# Altium footprint library eSurf_handle.PcbLib: 57 footprints (part 4 of 4)
Each footprint in its own frame and in the unit in brackets; x right, y up, seen from the top. Pads: shape width x height; smd on the part's side, far side on the other; paste and mask are expansions set on the pad; w line width, h text height; cw(c..) or ccw(c..) is an arc to the next point about the centre after c.
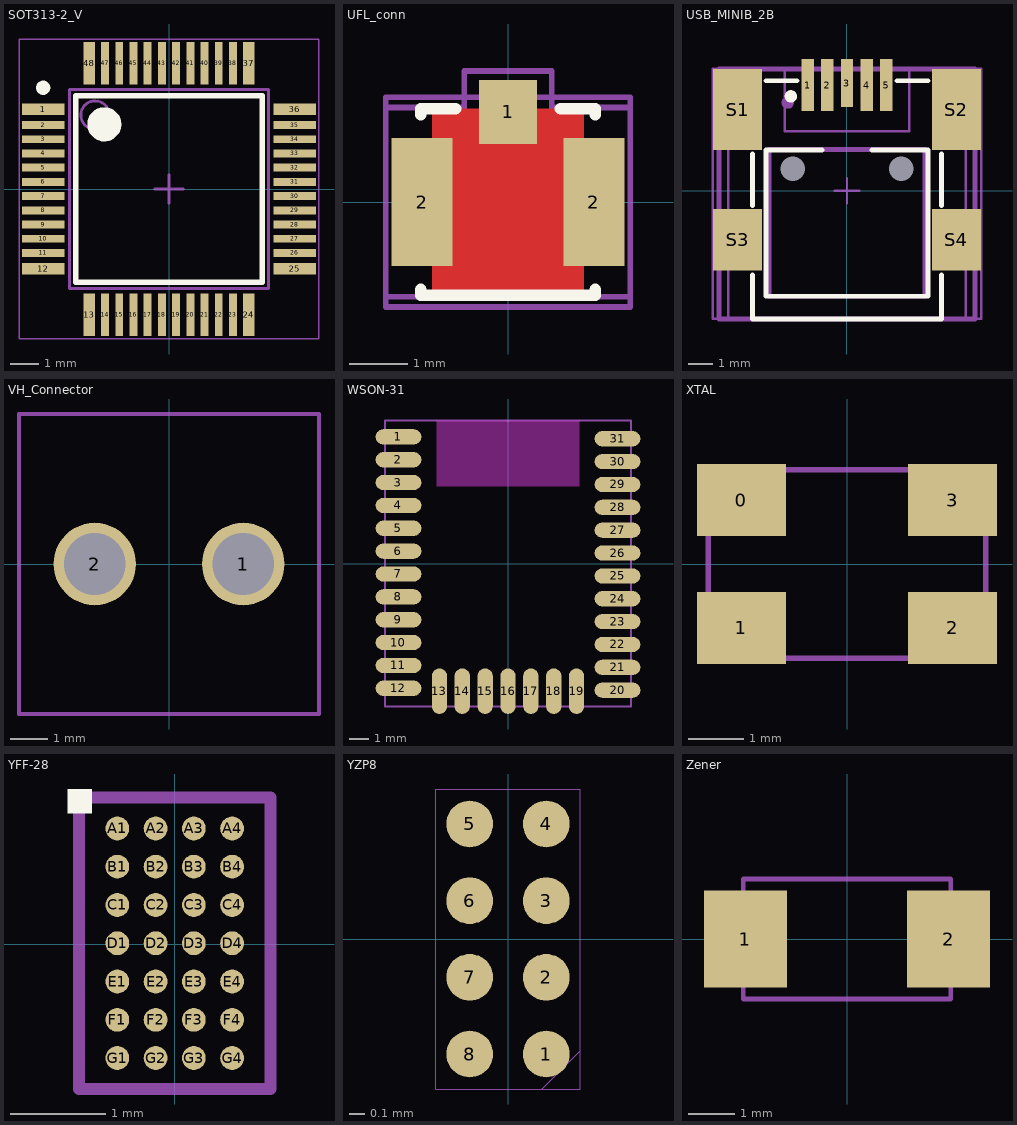
[diagram p3: the footprints below, top view; thin cyan lines are the x and y axes]

## SOT313-2_V [mm] "Thin QFP, 48-Leads, Body 7x7mm, Pitch 0.5mm, NXP Recommended"
height 1.6
pads (48):
  rect 1.5x0.4 smd: 1(-4.425,2.81) 12(-4.425,-2.81) 25(4.425,-2.81) 36(4.425,2.81)
  rect 1.5x0.28 smd: 2(-4.425,2.25) 3(-4.425,1.75) 4(-4.425,1.25) 5(-4.425,0.75) 6(-4.425,0.25) 7(-4.425,-0.25) 8(-4.425,-0.75) 9(-4.425,-1.25) 10(-4.425,-1.75) 11(-4.425,-2.25) 26(4.425,-2.25) 27(4.425,-1.75) 28(4.425,-1.25) 29(4.425,-0.75) 30(4.425,-0.25) 31(4.425,0.25) 32(4.425,0.75) 33(4.425,1.25) 34(4.425,1.75) 35(4.425,2.25)
  rect 0.4x1.5 smd: 13(-2.81,-4.425) 24(2.81,-4.425) 37(2.81,4.425) 48(-2.81,4.425)
  rect 0.28x1.5 smd: 14(-2.25,-4.425) 15(-1.75,-4.425) 16(-1.25,-4.425) 17(-0.75,-4.425) 18(-0.25,-4.425) 19(0.25,-4.425) 20(0.75,-4.425) 21(1.25,-4.425) 22(1.75,-4.425) 23(2.25,-4.425) 38(2.25,4.425) 39(1.75,4.425) 40(1.25,4.425) 41(0.75,4.425) 42(0.25,4.425) 43(-0.25,4.425) 44(-0.75,4.425) 45(-1.25,4.425) 46(-1.75,4.425) 47(-2.25,4.425)
Top Overlay:
  circle w0.6: c-2.275,2.275 r0.3
  circle w0.25: c-4.425,3.56 r0.125
  lines w0.2: -3.275,-3.275 3.275,-3.275 3.275,3.275 -3.275,3.275 -3.275,-3.275
Mechanical 13:
  circle w0.1: c-2.6,2.6 r0.5
  lines w0.1: -3.5,-3.5 3.5,-3.5 3.5,3.5 -3.5,3.5 -3.5,-3.5
Mechanical 15:
  lines w0.05: -5.275,-5.275 5.275,-5.275 5.275,5.275 -5.275,5.275 -5.275,-5.275
  lines w0.1: -0.5,0 0.5,0 ; 0,-0.5 0,0.5
3D body: height 1.6, standoff 0.05, extent -3.5,-3.5 3.5,3.5

## UFL_conn [mm]
pads (3):
  rect 1x1.1 smd: 1(0,1.55)
  rect 1.05x2.2 smd: 2(-1.475,0) 2(1.475,0)
Top Layer:
  pour cut-out: -1.3,1.6 -1.3,-1.6 1.3,-1.6 1.3,1.6
Top Overlay:
  lines w0.2: -1.5,-1.5 -1.5,-1.6 1.5,-1.6 1.5,-1.5 ; -1.5,1.5 -1.5,1.6 -0.9,1.6 ; 0.9,1.6 1.5,1.6 1.5,1.5
Mechanical 2:
  lines w0.1: -2.1,-1.625 -2.1,1.625 -0.75,1.625 -0.75,2.25 0.75,2.25 0.75,1.625 2.1,1.625 2.1,-1.625 -2.1,-1.625
  text ".Comment" at 1.85,0.1 h0.4
  text ".Designator" at 1.875,-0.625 h0.4
Mechanical 15:
  lines w0.1: -0.5,0 0.5,0 ; 0,-0.5 0,0.5 ; -2.1,-1.8 2.1,-1.8 2.1,1.8 -2.1,1.8 -2.1,-1.8
3D body: height 0.1, standoff 0, extent -1.65,-0.9 -1.15,0.9
3D body: height 0.1, standoff 0, extent 1.15,-0.9 1.65,0.9
3D body: height 0.45, standoff 0.35, extent -0.3,-1.6 0.3,-1
3D body: height 0.1, standoff 0, extent -0.3,-0.3 0.3,1.6
3D body: height 1, standoff 0, extent -0.1,-0.098 0.1,0.101
3D body: height 1.25, standoff 0, extent -0.996,-1 0.996,0.996
3D body: height 0.35, standoff 0, extent -1.301,-1.3 1.3,1.3

## USB_MINIB_2B [mm]
height 3.9
pads (11):
  rect 0.5x2.1 smd mask+0.05: 1(-1.6,4.3) 2(-0.8,4.3) 4(0.8,4.3) 5(1.6,4.3)
  rect 0.5x1.95 smd mask+0.05: 3(0,4.375)
  rect 2x3.3 smd: S1(-4.45,3.3) S2(4.45,3.3)
  rect 2x2.5 smd: S3(-4.45,-2) S4(4.45,-2)
  round 0.9 hole 1 unplated paste+0 mask-0.102: ""(-2.2,0.9) ""(2.2,0.9)
Top Overlay:
  circle w0.25: c-2.284,3.839 r0.125
  lines w0.2: -3.85,-3.429 -3.85,-5.207 3.85,-5.207 3.85,-3.429 ; -3.85,-0.6 -3.85,1.5 ; -3.302,4.474 -2.032,4.474 ; -1.016,1.651 -3.302,1.651 -3.302,-4.289 3.302,-4.289 3.302,1.651 1.016,1.651 ; 2.032,4.474 3.302,4.474 ; 3.85,-0.6 3.85,1.5
Mechanical 2:
  circle w0.25: c-2.411,3.585 r0.125
  lines w0.2: -5.207,-5.207 -5.207,4.953 1.807,4.953 5.207,4.953 5.207,-5.207 -5.207,-5.207 ; -3.175,-4.289 -3.175,1.68 3.175,1.68 3.175,-4.289 -3.175,-4.289
Mechanical 13:
  lines w0.1: -4.826,-5.207 -4.826,4.953 -2.54,4.953 -2.54,2.413 2.54,2.413 2.54,4.953 4.826,4.953 4.826,-5.207 -4.826,-5.207
Mechanical 15:
  lines w0.1: -0.5,0 0.5,0 ; 0,-0.5 0,0.5 ; -5.461,-5.207 5.461,-5.207 5.461,4.953 -5.461,4.953 -5.461,-5.207
3D body: height 3.9, standoff 0.05, extent -4.826,-5.207 4.826,4.953

## VH_Connector [mm] "JST Sales America Inc. B2P-VH(LF)(SN) - Connector 2 pins"
height 16
pads (2):
  round 2.2 hole 1.65: 1(1.98,0) 2(-1.98,0)
Mechanical 15:
  lines w0.1: -4,-4 4,-4 4,4 -4,4 -4,-4
3D body: height 10, standoff 0, extent -4,-4 4,4

## WSON-31 [mm] "BGM111 Bluetooth footprint"
height 1.8
pads (31):
  oval 2.4x0.8 smd: 1(-5.75,6.65) 2(-5.75,5.45) 3(-5.75,4.25) 4(-5.75,3.05) 5(-5.75,1.85) 6(-5.75,0.65) 7(-5.75,-0.55) 8(-5.75,-1.75) 9(-5.75,-2.95) 10(-5.75,-4.15) 11(-5.75,-5.35) 12(-5.75,-6.55) 20(5.75,-6.65) 21(5.75,-5.45) 22(5.75,-4.25) 23(5.75,-3.05) 24(5.75,-1.85) 25(5.75,-0.65) 26(5.75,0.55) 27(5.75,1.75) 28(5.75,2.95) 29(5.75,4.15) 30(5.75,5.35) 31(5.75,6.55)
  oval 0.8x2.4 smd: 13(-3.6,-6.7) 14(-2.4,-6.7) 15(-1.2,-6.7) 16(0,-6.7) 17(1.2,-6.7) 18(2.4,-6.7) 19(3.6,-6.7)
Keep-Out Layer:
  rectangle: -3.75,4.05 3.75,7.5
Mechanical 15:
  lines w0.1: -6.45,-7.5 -6.45,7.5 6.45,7.5 6.45,-7.5 -6.45,-7.5
3D body: height 1.6, standoff 0, extent -6.45,-7.5 6.45,7.5

## XTAL [mm]
pads (4):
  rect 1.6x1.3 smd: 0(-1.9,1.15) 1(-1.9,-1.15) 2(1.9,-1.15) 3(1.9,1.15)
Mechanical 15:
  lines w0.1: -2.5,-1.7 -2.5,1.7 2.5,1.7 2.5,-1.7 -2.5,-1.7
3D body: height 1.2, standoff 0, extent -2.5,-1.7 2.5,1.7

## YFF-28 [mm]
pads (28):
  round 0.249 smd mask+0: A1(-0.6,1.209) A2(-0.2,1.209) A3(0.2,1.209) A4(0.6,1.209) B1(-0.6,0.809) B2(-0.2,0.809) B3(0.2,0.809) B4(0.6,0.809) C1(-0.6,0.409) C2(-0.2,0.409) C3(0.2,0.409) C4(0.6,0.409) D1(-0.6,0.009) D2(-0.2,0.009) D3(0.2,0.009) D4(0.6,0.009) E1(-0.6,-0.391) E2(-0.2,-0.391) E3(0.2,-0.391) E4(0.6,-0.391) F1(-0.6,-0.791) F2(-0.2,-0.791) F3(0.2,-0.791) F4(0.6,-0.791) G1(-0.6,-1.191) G2(-0.2,-1.191) G3(0.2,-1.191) G4(0.6,-1.191)
Top Overlay:
  region: -1.121,1.368 -0.867,1.368 -0.867,1.622 -1.121,1.622
Mechanical 15:
  lines w0.127: -1.001,-1.515 -1.001,1.533 ; -1,-1.514 1,-1.514 ; -1,1.534 1,1.534 ; 1.001,-1.515 1.001,1.533
3D body: height 1, standoff 0, extent -1,-1.5 1,1.525

## YZP8 [mm]
pads (8):
  round 0.305 smd: 1(0.25,-0.75) 2(0.25,-0.25) 3(0.25,0.25) 4(0.25,0.75) 5(-0.25,0.75) 6(-0.25,0.25) 7(-0.25,-0.25) 8(-0.25,-0.75)
Mechanical 1:
  lines w0: 0.22,-0.978 0.47,-0.728 ; -0.47,-0.978 0.47,-0.978 0.47,0.978 -0.47,0.978 -0.47,-0.978
3D body: height 0.5, standoff 0, extent -0.504,-1.004 0.504,1.004

## Zener [mm]
pads (2):
  rect 1.8x2.1 smd: 1(-2.2,0) 2(2.2,0)
Mechanical 15:
  lines w0.1: -2.25,-1.3 -2.25,1.3 2.25,1.3 2.25,-1.3 -2.25,-1.3
3D body: height 2, standoff 0, extent -2.25,-1.3 2.25,1.3